# EAGLE library part 4455-A08 (library con-molex-kk)
RECEPTACAL
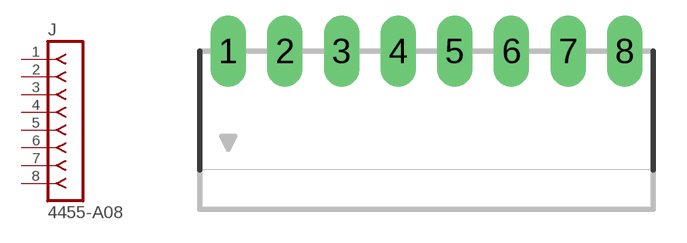
[diagram p106: symbol with the pads of 4455-A08; footprint 4455-A08]

Designator prefix J

## 4455-A08  [4455-A08]
1  1  pas
2  2  pas
3  3  pas
4  4  pas
5  5  pas
6  6  pas
7  7  pas
8  8  pas

## Footprint 4455-A08 (pad centres in mm)
RECEPTACAL Right Angle, 0.1" pitch
drill 1.067 long: 1 -8.89,0; 2 -6.35,0; 3 -3.81,0; 4 -1.27,0; 5 1.27,0; 6 3.81,0; 7 6.35,0; 8 8.89,0